# EAGLE library part MCP3424-E/SL (library MCP3424ESL)
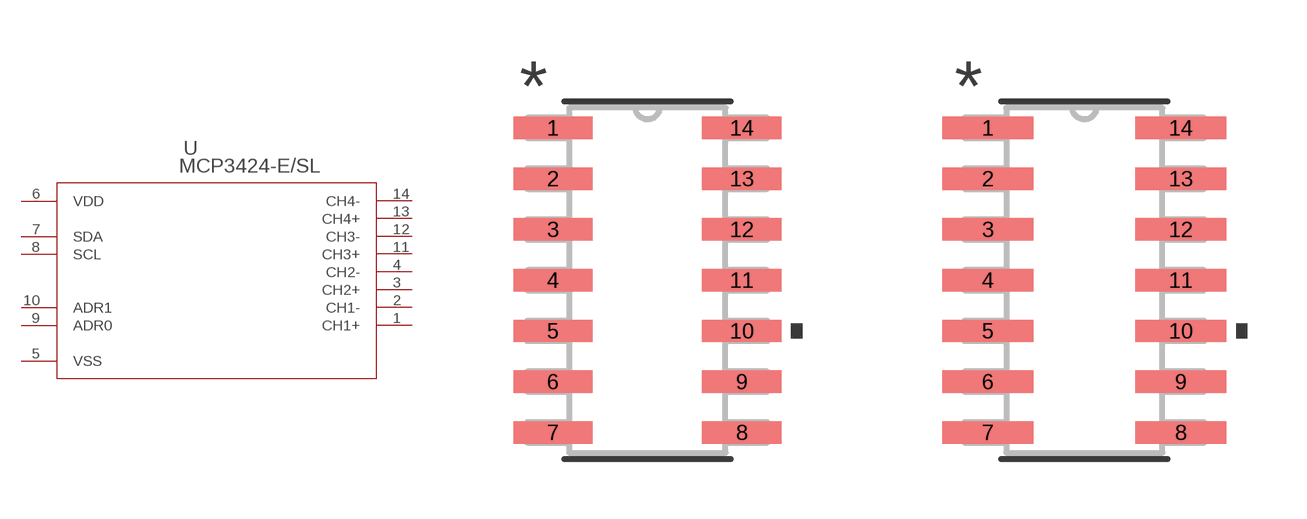
[diagram p0: symbol with the pads of SOIC14-N_MC_MCH; footprints SOIC14-N_MC_MCH, SOIC14-N_MC_MCH-M]

Designator prefix U

## MCP3424-E/SL (COPYRIGHT: Copyright (C) 2023 Ultra Librarian. All rights reserved.; MANUFACTURER_PART_NUMBER: MCP3424-E/SL; MFR_NAME: Microchip)  [SOIC14-N_MC_MCH]
1  CH1+  in
2  CH1-  in
3  CH2+  in
4  CH2-  in
5  VSS  pwr
6  VDD  pwr
7  SDA
8  SCL  in
9  ADR0  pas
10  ADR1  pas
11  CH3+  in
12  CH3-  in
13  CH4+  in
14  CH4-  in

## MCP3424-E/SLSOIC14-N_MC_MCH-M (COPYRIGHT: Copyright (C) 2023 Ultra Librarian. All rights reserved.; MANUFACTURER_PART_NUMBER: MCP3424-E/SL; MFR_NAME: Microchip)  [SOIC14-N_MC_MCH-M]
Pads as for SOIC14-N_MC_MCH

## MCP3424-E/SLSOIC14-N_MC_MCH-L (COPYRIGHT: Copyright (C) 2023 Ultra Librarian. All rights reserved.; MANUFACTURER_PART_NUMBER: MCP3424-E/SL; MFR_NAME: Microchip)  [SOIC14-N_MC_MCH-L]
Pads as for SOIC14-N_MC_MCH

## Footprint SOIC14-N_MC_MCH (pad centres in mm)
smd 1.981 x 0.559: 1 -2.362,3.81; 2 -2.362,2.54; 3 -2.362,1.27; 4 -2.362,0; 5 -2.362,-1.27; 6 -2.362,-2.54; 7 -2.362,-3.81; 8 2.362,-3.81; 9 2.362,-2.54; 10 2.362,-1.27; 11 2.362,0; 12 2.362,1.27; 13 2.362,2.54; 14 2.362,3.81

## Footprint SOIC14-N_MC_MCH-M (pad centres in mm)
smd 2.286 x 0.559: 1 -2.413,3.81; 2 -2.413,2.54; 3 -2.413,1.27; 4 -2.413,0; 5 -2.413,-1.27; 6 -2.413,-2.54; 7 -2.413,-3.81; 8 2.413,-3.81; 9 2.413,-2.54; 10 2.413,-1.27; 11 2.413,0; 12 2.413,1.27; 13 2.413,2.54; 14 2.413,3.81

## Footprint SOIC14-N_MC_MCH-L (pad centres in mm)
smd 1.676 x 0.508: 1 -2.311,3.81; 2 -2.311,2.54; 3 -2.311,1.27; 4 -2.311,0; 5 -2.311,-1.27; 6 -2.311,-2.54; 7 -2.311,-3.81; 8 2.311,-3.81; 9 2.311,-2.54; 10 2.311,-1.27; 11 2.311,0; 12 2.311,1.27; 13 2.311,2.54; 14 2.311,3.81